# Altium footprint library PCB - CONNECTOR - HARWIN - HARWIN M20-9960345.PcbLib: 1 footprints
Each footprint in its own frame and in the unit in brackets; x right, y up, seen from the top. Pads: shape width x height; smd on the part's side, far side on the other; paste and mask are expansions set on the pad; w line width, h text height; cw(c..) or ccw(c..) is an arc to the next point about the centre after c.
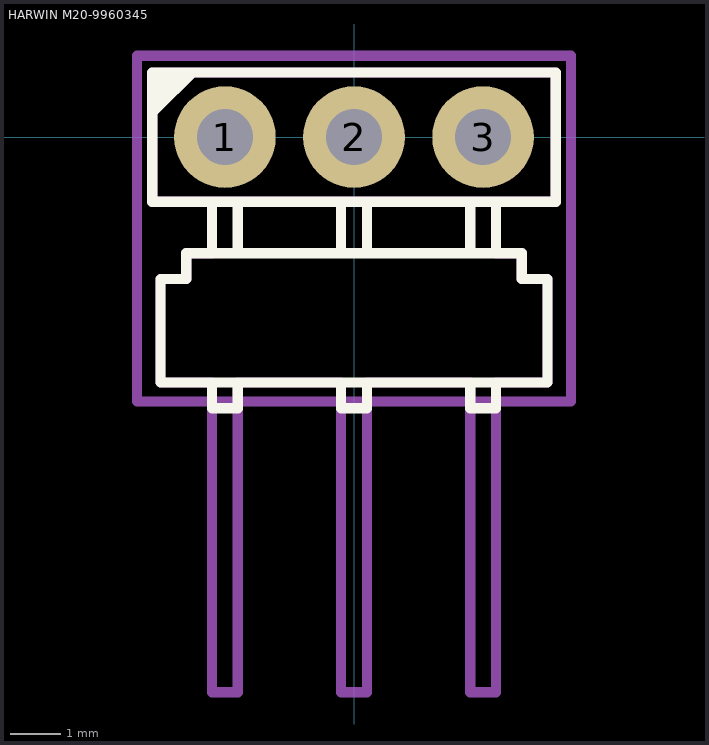
[diagram p0: the footprint, top view; thin cyan lines are the x and y axes]

## HARWIN M20-9960345 [mm] "2.54mm DIL PC TAIL PIN HEADER ASSEMBLY"
height 2.54
pads (3):
  round 2 hole 1.1: 1(-2.54,0) 2(0,0) 3(2.54,0)
Top Overlay:
  region: -3.92,1.3 -3.92,0.4 -3.02,1.3
  lines w0.2: -2.794,-4.826 -2.794,-5.334 -2.286,-5.334 -2.286,-4.826 ; -2.794,-2.286 -2.794,-1.27 ; -2.286,-2.286 -2.286,-1.27 ; -0.254,-4.826 -0.254,-5.334 0.254,-5.334 0.254,-4.826 ; -0.254,-2.286 -0.254,-1.27 ; 0.254,-2.286 0.254,-1.27 ; 2.286,-4.826 2.286,-5.334 2.794,-5.334 2.794,-4.826 ; 2.286,-2.286 2.286,-1.27 ; 2.794,-2.286 2.794,-1.27 ; -3.97,-1.27 -3.97,1.27 3.97,1.27 3.97,-1.27 -3.97,-1.27 ; -3.81,-4.826 -3.81,-2.794 -3.302,-2.794 -3.302,-2.286 3.302,-2.286 3.302,-2.794 3.81,-2.794 3.81,-4.826 -3.81,-4.826
Top Assembly:
  lines w0.2: -2.794,-1.27 -2.794,-2.286 -3.302,-2.286 -3.302,-2.794 -3.81,-2.794 -3.81,-4.826 -2.794,-4.826 -2.794,-10.922 -2.286,-10.922 -2.286,-4.826 -0.254,-4.826 -0.254,-10.922 0.254,-10.922 0.254,-4.826 2.286,-4.826 2.286,-10.922 2.794,-10.922 2.794,-4.826 3.81,-4.826 3.81,-2.794 3.302,-2.794 3.302,-2.286 2.794,-2.286 2.794,-1.27 ; -0.5,0 0.5,0 ; 0,-0.5 0,0.5 ; -3.97,-1.27 -3.97,1.27 3.97,1.27 3.97,-1.27 -3.97,-1.27
Top Courtyard (Mech15):
  lines w0.2: 4.23,1.6 -4.27,1.6 -4.27,-5.2 4.27,-5.2 4.27,1.6
3D body "HARWIN M20-9960345.step": height 2.54, standoff -3, extent -3.81,-10.9 3.81,0.32